# Altium schematic symbol library CL21A226MAYNNNE.SchLib: 1 symbol
Pins are listed as number, name and electrical type; pins without a type are passive.

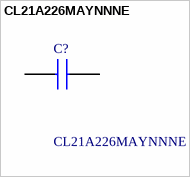
[diagram p0: symbol CL21A226MAYNNNE]

## CL21A226MAYNNNE
designator C?
Multilayer Ceramic Capacitors MLCC - SMD/SMT 22uF+/-20% 25V X5R 2012; Manufacturer_Name: SAMSUNG; Geometry.Height: 1.45mm; Mouser Part Number: 187-CL21A226MAYNNNE; Mouser Price/Stock: https://www.mouser.co.uk/ProductDetail/Samsung-Electro-Mechanics/CL21A226MAYNNNE?qs=xZ%2FP%252Ba9zWqY%2FVvCfXjMhqg%3D%3D; Manufacturer_Part_Number: CL21A226MAYNNNE; Datasheet Link: http://product.samsungsem.com/mlcc/CL21A226MAYNNN.do
footprint CAPC2012X145N
pins: 1, 2